# Altium footprint library Antennas.PcbLib: 1 footprints
Each footprint in its own frame and in the unit in brackets; x right, y up, seen from the top. Pads: shape width x height; smd on the part's side, far side on the other; paste and mask are expansions set on the pad; w line width, h text height; cw(c..) or ccw(c..) is an arc to the next point about the centre after c.
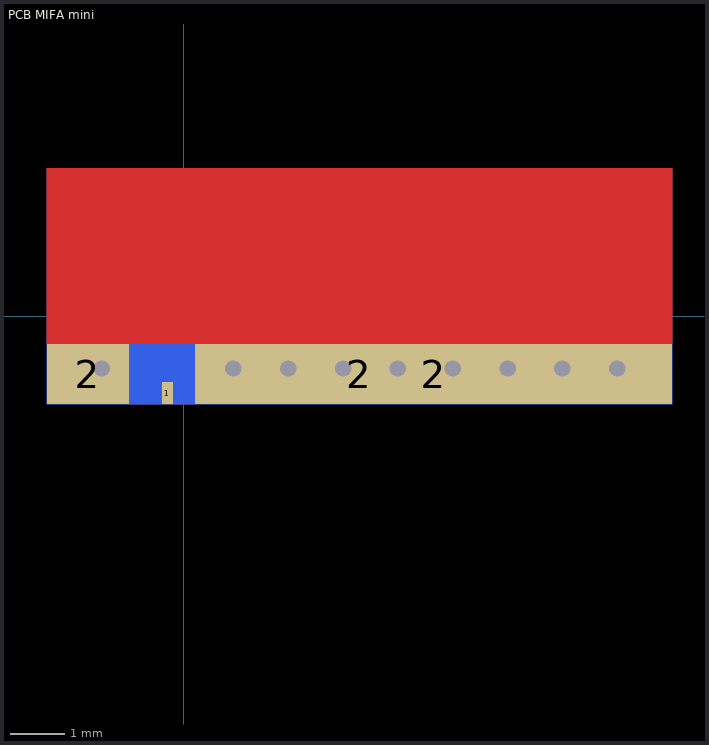
[diagram p0: the footprint, top view; thin cyan lines are the x and y axes]

## PCB MIFA mini [mm]
pads (4):
  rect 0.2x0.4 smd paste-2539.97 mask+0: 1(-0.3,-1.4)
  rect 1.5x1.1 smd paste-1 mask+0.102: 2(-1.75,-1.05)
  rect 11.4x1.1 smd far side mask+0.102: 2(3.2,-1.05)
  rect 8.7x1.1 smd paste-1 mask+0.102: 2(4.55,-1.05)
via 7.9,-0.95 diameter 0.6 hole 0.3
via 6.9,-0.95 diameter 0.6 hole 0.3
via 5.9,-0.95 diameter 0.6 hole 0.3
via 4.9,-0.95 diameter 0.6 hole 0.3
via 3.9,-0.95 diameter 0.6 hole 0.3
via 2.9,-0.95 diameter 0.6 hole 0.3
via 1.9,-0.95 diameter 0.6 hole 0.3
via 0.9,-0.95 diameter 0.6 hole 0.3
via -1.5,-0.95 diameter 0.6 hole 0.3
Top Layer:
  region: -0.4,2.2 -0.4,-1.6 -0.2,-1.6 -0.2,2.2
  region: -1.5,2.2 -1.5,-0.7 -1,-0.7 -1,2.2
  rectangle: -1.2,2 -0.2,2.2
  rectangle: 7.1,2 8.05,2.2
  region: 7.3,0 7.3,2.2 7.1,2.2 7.1,0
  rectangle: 6.8,0 7.3,0.2
  region: 6.8,2.2 6.8,0 7,0 7,2.2
  rectangle: 6.5,2 7,2.2
  region: 6.7,0 6.7,2.2 6.5,2.2 6.5,0
  rectangle: 6.2,0 6.7,0.2
  region: 6.2,2.2 6.2,0 6.4,0 6.4,2.2
  rectangle: 5.9,2 6.4,2.2
  region: 6.1,0 6.1,2.2 5.9,2.2 5.9,0
  rectangle: 5.6,0 6.1,0.2
  region: 5.6,2.2 5.6,0 5.8,0 5.8,2.2
  rectangle: 5.3,2 5.8,2.2
  region: 5.5,0 5.5,2.2 5.3,2.2 5.3,0
  rectangle: 5,0 5.5,0.2
  region: 5,2.2 5,0 5.2,0 5.2,2.2
  rectangle: 4.7,2 5.2,2.2
  region: 4.9,0 4.9,2.2 4.7,2.2 4.7,0
  rectangle: 4.4,0 4.9,0.2
  region: 4.4,2.2 4.4,0 4.6,0 4.6,2.2
  rectangle: 4.1,2 4.6,2.2
  region: 4.3,0 4.3,2.2 4.1,2.2 4.1,0
  rectangle: 3.8,0 4.3,0.2
  region: 3.8,2.2 3.8,0 4,0 4,2.2
  rectangle: 3.5,2 4,2.2
  region: 3.7,0 3.7,2.2 3.5,2.2 3.5,0
  rectangle: 3.2,0 3.7,0.2
  region: 3.2,2.2 3.2,0 3.4,0 3.4,2.2
  rectangle: 2.9,2 3.4,2.2
  region: 3.1,0 3.1,2.2 2.9,2.2 2.9,0
  rectangle: 2.6,0 3.1,0.2
  region: 2.6,2.2 2.6,0 2.8,0 2.8,2.2
  rectangle: 2.3,2 2.8,2.2
  region: 2.5,0 2.5,2.2 2.3,2.2 2.3,0
  rectangle: 2,0 2.5,0.2
  region: 2,2.2 2,0 2.2,0 2.2,2.2
  rectangle: 1.7,2 2.2,2.2
  region: 1.9,0 1.9,2.2 1.7,2.2 1.7,0
  rectangle: 1.4,0 1.9,0.2
  region: 1.4,2.2 1.4,0 1.6,0 1.6,2.2
  rectangle: 1.1,2 1.6,2.2
  region: 1.3,0 1.3,2.2 1.1,2.2 1.1,0
  rectangle: 0.8,0 1.3,0.2
  region: 0.8,2.2 0.8,0 1,0 1,2.2
  rectangle: 0.5,2 1,2.2
  region: 0.7,0 0.7,2.2 0.5,2.2 0.5,0
  rectangle: 0.2,0 0.7,0.2
  region: 0.2,2.2 0.2,0 0.4,0 0.4,2.2
  rectangle: -0.4,2 0.4,2.2
  pour cut-out: -2.5,-0.5 8.9,-0.5 8.9,2.7 -2.5,2.7
  pour cut-out: -1,-0.5 0.2,-0.5 0.2,-1.6 -1,-1.6
Bottom Layer:
  pour cut-out: -2.5,-0.5 8.9,-0.5 8.9,2.7 -2.5,2.7